# Altium schematic symbol library SCH - POWER - LINEAR VREG - AD ADP7105ACPZ-R2.SchLib: 1 symbol
Pins are listed as number, name and electrical type; pins without a type are passive.

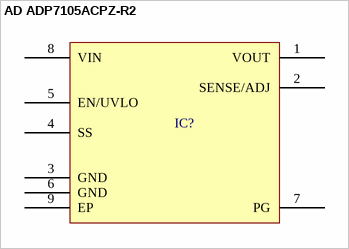
[diagram p0: symbol AD ADP7105ACPZ-R2]

## AD ADP7105ACPZ-R2
designator IC?  (value not drawn)
pins: 1 VOUT, 2 SENSE/ADJ, 3 GND, 4 SS, 5 EN/UVLO, 6 GND, 7 PG, 8 VIN, 9 EP